# Altium schematic symbol library ETHERNET.SchLib: 3 symbols
Pins are listed as number, name and electrical type; pins without a type are passive.

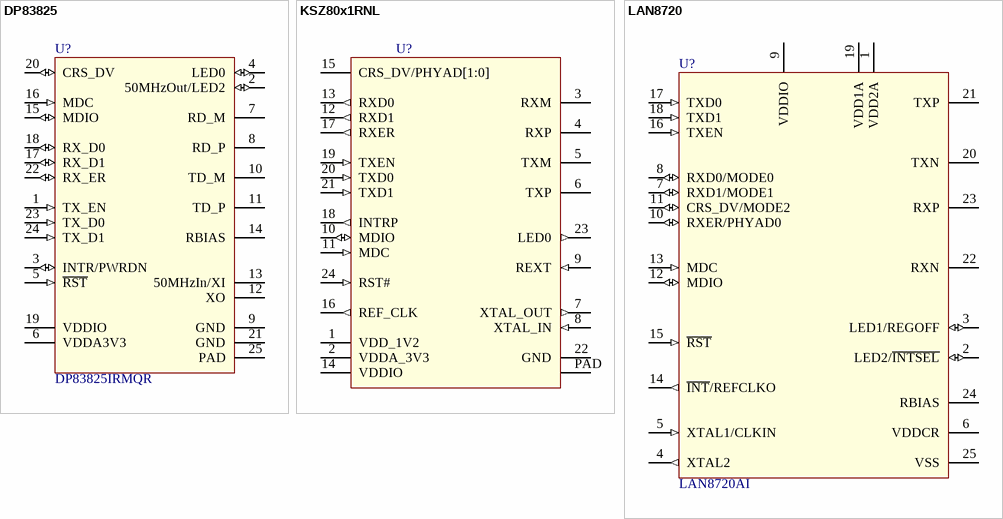
[diagram p0: symbols DP83825 to LAN8720]

## DP83825
designator U?  value DP83825IRMQR  (hidden comment: DP83825)
Ethernet PHY (RMII)
footprint RMQ0024A (QFN, 24-Leads, Body 3,00x3,00mm, Pitch 0,40mm, Thermal Pad 1,90x1,90mm, IPC Medium Density)
pins: 1 TX_EN (in), 2 50MHzOut/LED2 (io), 3 INTR/PWRDN (io), 4 LED0 (io), 5 ~{RST} (in), 6 VDDA3V3 (power), 7 RD_M, 8 RD_P, 9 GND, 10 TD_M, 11 TD_P, 12 XO, 13 50MHzIn/XI, 14 RBIAS, 15 MDIO (io), 16 MDC (in), 17 RX_D1 (io), 18 RX_D0 (io), 19 VDDIO (power), 20 CRS_DV (io), 21 GND (power), 22 RX_ER (io), 23 TX_D0 (in), 24 TX_D1 (in), 25 PAD

## KSZ80x1RNL
designator U?  (value not drawn)
Ethernet PHY (RMII); Value: KSZ80x1RNL
pins: 1 VDD_1V2 (power), 2 VDDA_3V3 (power), 3 RXM, 4 RXP, 5 TXM, 6 TXP, 7 XTAL_OUT (out), 8 XTAL_IN (in), 9 REXT (in), 10 MDIO (io), 11 MDC (in), 12 RXD1 (out), 13 RXD0 (out), 14 VDDIO (power), 15 CRS_DV/PHYAD[1:0], 16 REF_CLK (out), 17 RXER (out), 18 INTRP (out), 19 TXEN (in), 20 TXD0 (in), 21 TXD1 (in), 22 GND (power), 23 LED0 (out), 24 RST# (in), PAD (power)

## LAN8720
designator U?  value LAN8720AI  (hidden comment: LAN8720)
Small Footprint RMII 10/100 Ethernet Transceiver with HP Auto-MDIX Support
pins: 1 VDD2A (power), 2 LED2/~{INTSEL} (io), 3 LED1/REGOFF (io), 4 XTAL2 (out), 5 XTAL1/CLKIN (in), 6 VDDCR (power), 7 RXD1/MODE1 (io), 8 RXD0/MODE0 (io), 9 VDDIO (power), 10 RXER/PHYAD0 (io), 11 CRS_DV/MODE2 (io), 12 MDIO (io), 13 MDC (in), 14 ~{INT}/REFCLKO (out), 15 ~{RST} (in), 16 TXEN (in), 17 TXD0 (in), 18 TXD1 (in), 19 VDD1A (power), 20 TXN, 21 TXP, 22 RXN, 23 RXP, 24 RBIAS, 25 VSS (power)